# EAGLE library part CA3140EZ (library Intersil_By_element14_Batch_1)
Operational Amplifier with MOSFET Input/Bipolar Output
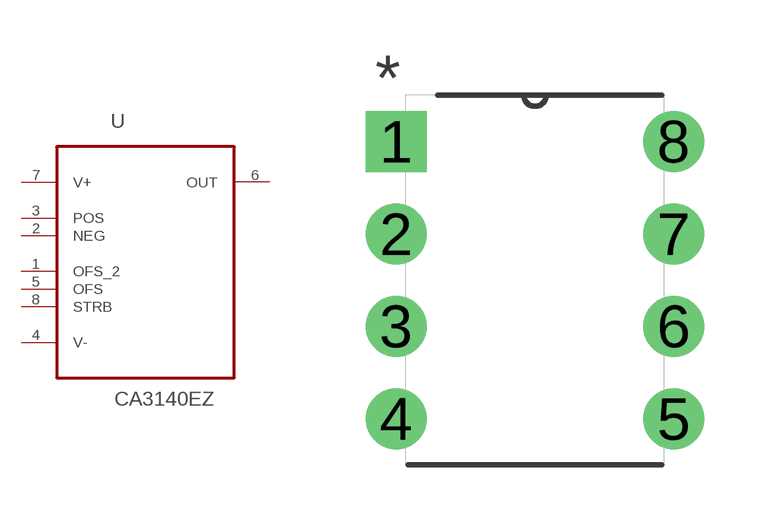
[diagram p9: symbol with the pads of DIP254P762X533-8; footprint DIP254P762X533-8]

Designator prefix U

## CA3140EZ (MPN: CA3140EZ; OC_FARNELL: 9663614; OC_NEWARK: 57K3023; PACKAGE: DIP-8; SUPPLIER: INTERSIL)  [DIP254P762X533-8]
1  OFS_2  pas
2  NEG  in
3  POS  in
4  V-  pwr
5  OFS  pas
6  OUT  out
7  V+  pwr
8  STRB  pas

## Footprint DIP254P762X533-8 (pad centres in mm)
drill 1.118 square: 1 -7.62,7.62
drill 1.118: 2 -7.62,5.08; 3 -7.62,2.54; 4 -7.62,0; 5 0,0; 6 0,2.54; 7 0,5.08; 8 0,7.62